# Altium schematic symbol library SCH - CONNECTORS - SAMTEC - IPL1-102-02-L-D-K-0.Schlib: 1 symbol
Pins are listed as number, name and electrical type; pins without a type are passive.

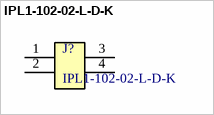
[diagram p0: symbol IPL1-102-02-L-D-K]

## IPL1-102-02-L-D-K
designator J?
.100" Mini Mate® Isolated Power Terminal Header
pins: 1, 2, 3, 4